# Altium schematic symbol library Schlib1.SchLib: 5 symbols
Pins are listed as number, name and electrical type; pins without a type are passive.

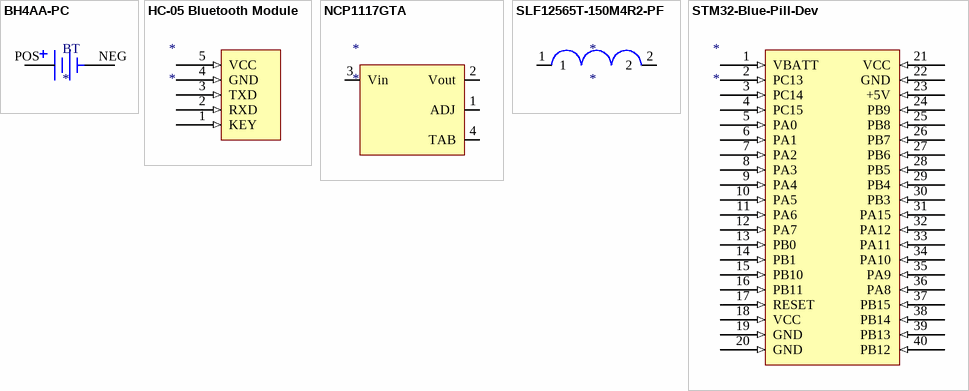
[diagram p0: symbols BH4AA-PC to STM32-Blue-Pill-Dev]

## BH4AA-PC
designator BT
Battery Holder _Open_ AA 4 Cell PC Pin; MP: BH4AAPC; MF: MPD; Availability: Unavailable; SnapEDA_Link: https://www.snapeda.com/parts/BH4AAPC/MPD/view-part/112528/?ref=snap; Price: None; Package: None; Value: *
footprint BAT_BH4AA-PC
pins: NEG, POS

## HC-05 Bluetooth Module
designator *
footprint HC-05 Bluetooth Module
pins: 1 KEY (in), 2 RXD (in), 3 TXD (in), 4 GND (in), 5 VCC (in)

## NCP1117GTA
designator *
footprint SOT230P700X180-4N (SOT223, 4-Leads, Body 6.50x7.00mm (avg), Pitch 2.30mm, IPC Medium Density)
pins: 1 ADJ, 2 Vout, 3 Vin, 4 TAB

## SLF12565T-150M4R2-PF
designator *
footprint 0.492" x 0.492"
pins: 1, 2

## STM32-Blue-Pill-Dev
designator *
footprint STM32-Blue-Pill-Dev-Headers
pins: 1 VBATT (in), 2 PC13 (in), 3 PC14 (in), 4 PC15 (in), 5 PA0 (in), 6 PA1 (in), 7 PA2 (in), 8 PA3 (in), 9 PA4 (in), 10 PA5 (in), 11 PA6 (in), 12 PA7 (in), 13 PB0 (in), 14 PB1 (in), 15 PB10 (in), 16 PB11 (in), 17 RESET (in), 18 VCC (in), 19 GND (in), 20 GND (in), 21 VCC (in), 22 GND (in), 23 +5V (in), 24 PB9 (in), 25 PB8 (in), 26 PB7 (in), 27 PB6 (in), 28 PB5 (in), 29 PB4 (in), 30 PB3 (in), 31 PA15 (in), 32 PA12 (in), 33 PA11 (in), 34 PA10 (in), 35 PA9 (in), 36 PA8 (in), 37 PB15 (in), 38 PB14 (in), 39 PB13 (in), 40 PB12 (in)